# Altium footprint library Connector_Audio.PcbLib: 212 footprints (part 6 of 14)
Each footprint in its own frame and in the unit in brackets; x right, y up, seen from the top. Pads: shape width x height; smd on the part's side, far side on the other; paste and mask are expansions set on the pad; w line width, h text height; cw(c..) or ccw(c..) is an arc to the next point about the centre after c.
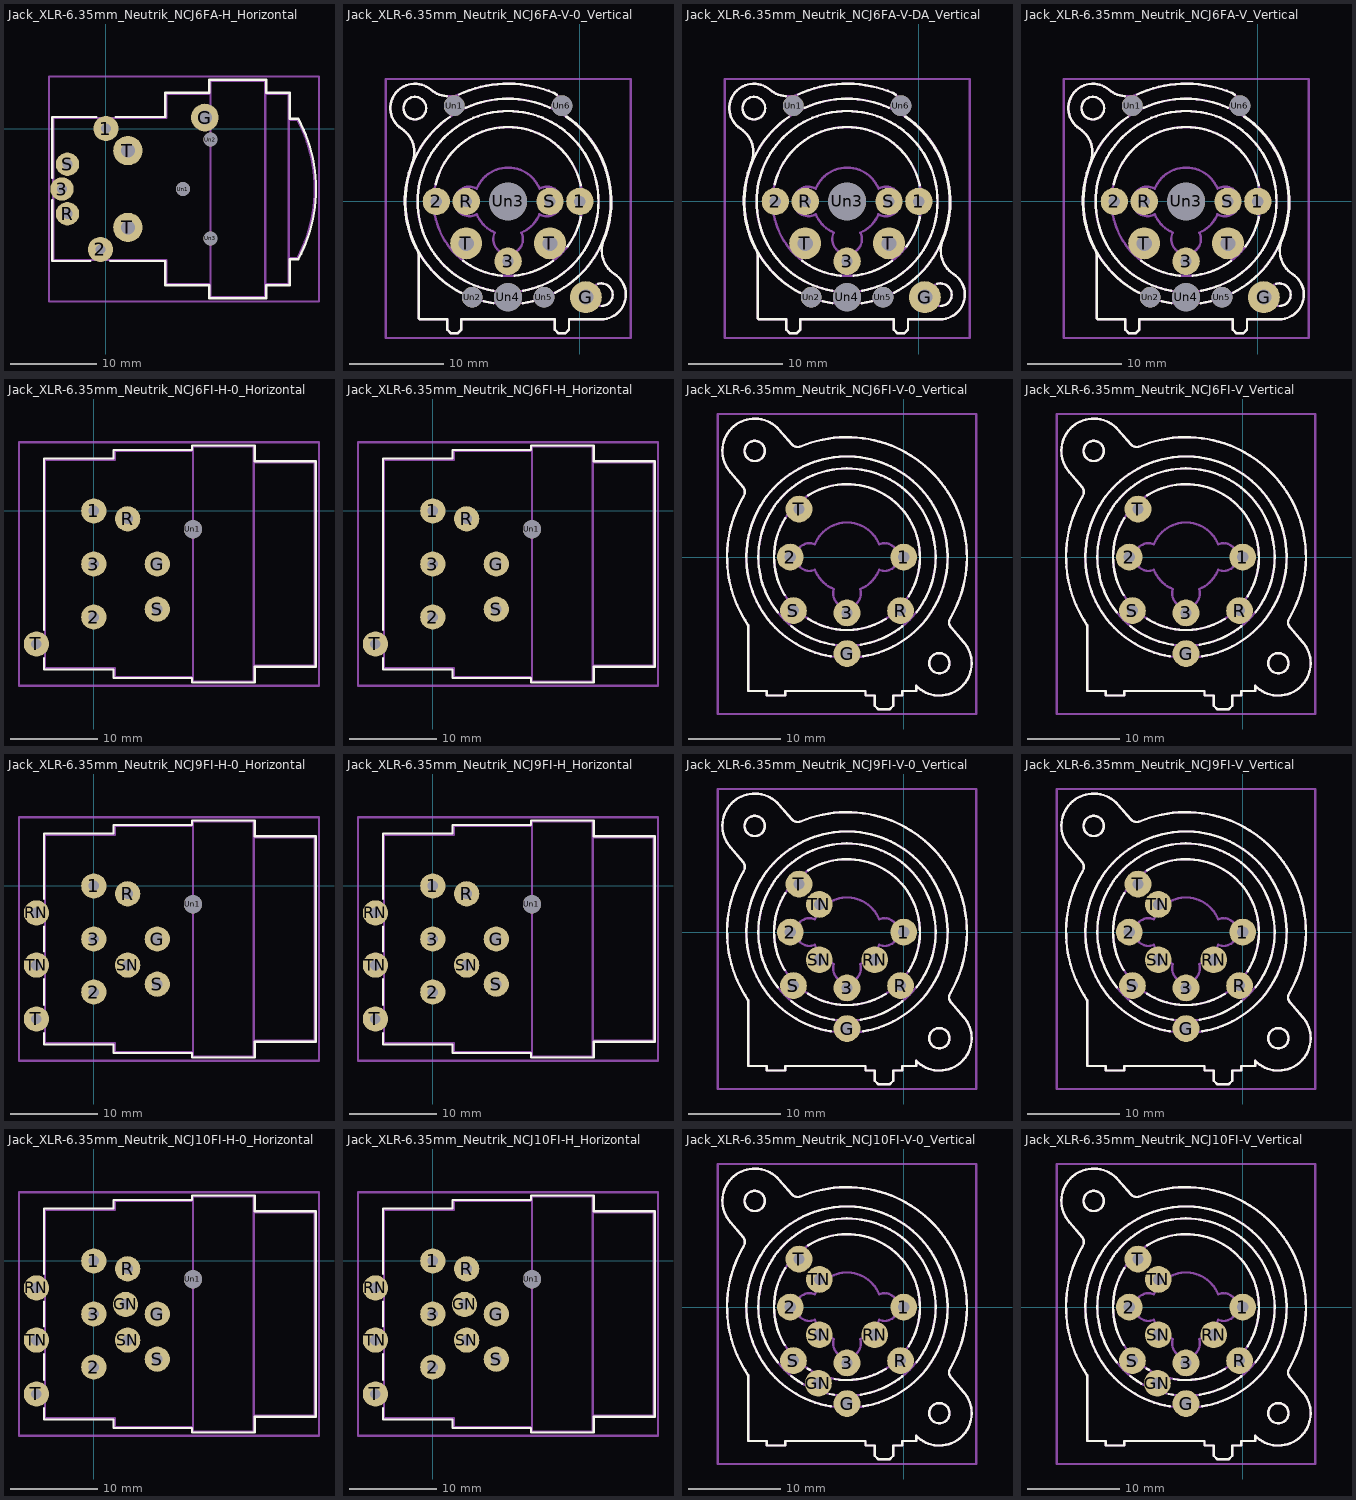
[diagram p5: the footprints below, top view; thin cyan lines are the x and y axes]

## Jack_XLR-6.35mm_Neutrik_NCJ6FA-H_Horizontal [mm]
pads (11):
  round 2.9 hole 1.2: 1(0,0) 2(-0.635,-13.97)
  round 2.7 hole 1.2: 3(-5.08,-6.985) R(-4.445,-9.842) S(-4.445,-4.127)
  round 3.2 hole 1.6: G(11.43,1.27)
  round 3.4 hole 1.6: T(2.54,-11.43) T(2.54,-2.54)
  round 1.6 hole 1.6: Un1(8.89,-6.985) Un2(12.065,-1.27) Un3(12.065,-12.7)
F.SilkS:
  lines w0.254: -6.205,-8.285 -6.205,-15.305 -1.8,-15.305 ; -6.205,-5.685 -6.205,1.335 -1.1,1.335 ; 0.5,-15.3 6.845,-15.305 6.845,-18.105 11.945,-18.105 11.945,-19.605 18.535,-19.605 18.535,-18.105 21.235,-18.105 21.235,-15.105 22.235,-15.105 ; 1.1,1.335 6.845,1.335 6.845,4.135 11.945,4.135 11.945,5.635 18.535,5.635 18.535,4.135 21.235,4.135 21.235,1.135 22.235,1.135 cw(c7.115,-6.985) 22.246,-15.085
Top Assembly:
  lines w0.254: 12.065,-17.985 6.965,-17.985 6.965,-15.185 -6.085,-15.185 -6.085,1.215 6.965,1.215 6.965,4.015 12.065,4.015 ; 18.415,-17.985 21.115,-17.985 21.115,4.015 18.415,4.015 ; 21.115,-14.985 22.115,-14.985 ; 21.115,1.015 22.115,1.015 cw(c7.115,-6.985) 22.121,-14.973 ; 12.065,-19.485 18.415,-19.485 18.415,5.515 12.065,5.515 12.065,-19.485
  text "'.Designator'" at 11.218,-7.825 h1
Top Courtyard:
  lines w0.254: -6.59,-19.98 24.62,-19.98 24.62,6.02 -6.59,6.02 -6.59,-19.98
Top Designator:
  text ".Designator" at 1.397,-7.488 h1.52
Dwgs.User:
  lines w0.254: 18.415,-19.485 18.415,5.515

## Jack_XLR-6.35mm_Neutrik_NCJ6FA-V-0_Vertical [mm]
pads (14):
  round 2.9 hole 1.2: 1(0,0) 2(-15.24,0) 3(-7.62,-6.35) R(-12.065,0) S(-3.175,0)
  round 3.4 hole 1.6: G(0.635,-10.16) T(-12.065,-4.445) T(-3.175,-4.445)
  round 2.2 hole 2.2: Un1(-13.335,10.16) Un2(-11.43,-10.16) Un5(-3.81,-10.16) Un6(-1.905,10.16)
  round 4 hole 4: Un3(-7.62,0)
  round 3 hole 3: Un4(-7.62,-10.16)
F.SilkS:
  circle w0.254: c-17.52,9.9 r1.2
  lines w0.254: -18.935,7.723 cw(c-17.52,9.9) -15.84,11.88 ccw(c-13.89,14.15) -14.149,11.169 ; -18.931,7.719 cw(c-20.56,5.21) -17.79,4.08 ccw(c-7.62,0) -17.144,-5.419 ; -17.155,-5.398 cw(c-17.35,-5.52) -17.12,-5.51 -17.12,-12.3 ccw(c-16.92,-12.3) -16.92,-12.5 -14.08,-12.5 -14.08,-13.6 -13.68,-14 -12.98,-14 -12.58,-13.6 -12.58,-12.5 -2.66,-12.5 -2.66,-13.6 -2.26,-14 -1.56,-14 -1.16,-13.6 -1.16,-12.5 2.28,-12.5 ccw(c2.28,-9.9) 3.696,-7.719 ; -15.31,1.8 cw(c-7.62,0) 0.084,1.74 ; -13.831,8.962 ccw(c-7.62,0) -12.6,-9.7 ; -12.836,11.357 cw(c-7.62,0) -2.75,11.51 ; -12.389,-6.297 ccw(c-7.62,0) -8.3,-7.87 ; -12.1,9.94 cw(c-7.62,0) -3.179,9.957 ; -10.216,-10.587 ccw(c-7.62,0) -9.17,-10.79 ; -9.2,-9.47 cw(c-7.62,0) -6.031,-9.468 ; -6.94,-7.87 ccw(c-7.62,0) -2.851,-6.297 ; -6.064,-10.788 ccw(c-7.62,0) -5,-10.58 ; -2.789,11.525 cw(c-3.15,10.58) -2.45,11.31 ; -2.613,-9.686 ccw(c-7.62,0) -1.45,8.99 ; -1.373,9.002 cw(c-7.62,0) 2.55,-4.08 ccw(c5.31,-5.21) 3.687,-7.712 ; -1.33,-4.78 ccw(c-7.62,0) 0.098,-1.687 ; 1.932,-8.751 cw(c2.28,-9.9) 2.3,-11.1
Top Assembly:
  circle w0.254: c2.28,-9.9 r1.2
  circle w0.254: c-7.62,0 r10.9
  circle w0.254: c-7.62,0 r9.6
  circle w0.254: c-7.62,0 r7.9
  circle w0.254: c-17.52,9.9 r1.2
  lines w0.254: -18.935,7.723 cw(c-17.52,9.9) -15.84,11.88 ccw(c-13.89,14.15) -12.914,11.321 ; -18.931,7.719 cw(c-20.56,5.21) -17.79,4.08 ccw(c-7.62,0) -17.144,-5.419 ; -17.155,-5.398 cw(c-17.35,-5.52) -17.12,-5.51 -17.12,-12.3 ccw(c-16.92,-12.3) -16.92,-12.5 -14.08,-12.5 -14.08,-13.6 -13.68,-14 -12.98,-14 -12.58,-13.6 -12.58,-12.5 -2.66,-12.5 -2.66,-13.6 -2.26,-14 -1.56,-14 -1.16,-13.6 -1.16,-12.5 2.28,-12.5 ccw(c2.28,-9.9) 3.696,-7.719 ; -12.915,11.321 cw(c-7.62,0) -2.75,11.51 ; -10.954,-1.362 cw(c-11.73,0) -10.95,1.36 ; -10.95,-1.36 ccw(c-7.62,0) -9.036,-3.307 ; -10.946,1.37 cw(c-7.62,0) -4.29,1.36 ; -9.03,-3.31 ccw(c-7.62,-4.01) -6.209,-3.313 ; -6.21,-3.31 ccw(c-7.62,0) -4.292,-1.367 ; -4.3,-1.36 ccw(c-3.513,0) -4.285,1.369 ; -2.752,11.511 cw(c-3.16,10.58) -2.21,10.22 -2.37,9.82 ccw(c-2.17,9.75) -2.265,9.56 ; -2.37,9.68 ccw(c-1.92,10.27) -2.207,10.954 ; -2.281,9.569 cw(c-7.62,0) 2.55,-4.08 ccw(c5.31,-5.21) 3.687,-7.712
  text "'.Designator'" at -11.667,3.66 h1
Top Courtyard:
  lines w0.254: -20.62,-14.5 5.38,-14.5 5.38,13 -20.62,13 -20.62,-14.5
Top Designator:
  text ".Designator" at -15.238,-1.258 h1.52

## Jack_XLR-6.35mm_Neutrik_NCJ6FA-V-DA_Vertical [mm]
pads (14):
  round 2.9 hole 1.2: 1(0,0) 2(-15.24,0) 3(-7.62,-6.35) R(-12.065,0) S(-3.175,0)
  round 3.4 hole 1.6: G(0.635,-10.16) T(-12.065,-4.445) T(-3.175,-4.445)
  round 2.2 hole 2.2: Un1(-13.335,10.16) Un2(-11.43,-10.16) Un5(-3.81,-10.16) Un6(-1.905,10.16)
  round 4 hole 4: Un3(-7.62,0)
  round 3 hole 3: Un4(-7.62,-10.16)
F.SilkS:
  circle w0.254: c-17.52,9.9 r1.2
  lines w0.254: -18.935,7.723 cw(c-17.52,9.9) -15.84,11.88 ccw(c-13.89,14.15) -14.149,11.169 ; -18.931,7.719 cw(c-20.56,5.21) -17.79,4.08 ccw(c-7.62,0) -17.144,-5.419 ; -17.155,-5.398 cw(c-17.35,-5.52) -17.12,-5.51 -17.12,-12.3 ccw(c-16.92,-12.3) -16.92,-12.5 -14.08,-12.5 -14.08,-13.6 -13.68,-14 -12.98,-14 -12.58,-13.6 -12.58,-12.5 -2.66,-12.5 -2.66,-13.6 -2.26,-14 -1.56,-14 -1.16,-13.6 -1.16,-12.5 2.28,-12.5 ccw(c2.28,-9.9) 3.696,-7.719 ; -15.31,1.8 cw(c-7.62,0) 0.084,1.74 ; -13.831,8.962 ccw(c-7.62,0) -12.6,-9.7 ; -12.836,11.357 cw(c-7.62,0) -2.75,11.51 ; -12.389,-6.297 ccw(c-7.62,0) -8.3,-7.87 ; -12.1,9.94 cw(c-7.62,0) -3.179,9.957 ; -10.216,-10.587 ccw(c-7.62,0) -9.17,-10.79 ; -9.2,-9.47 cw(c-7.62,0) -6.031,-9.468 ; -6.94,-7.87 ccw(c-7.62,0) -2.851,-6.297 ; -6.064,-10.788 ccw(c-7.62,0) -5,-10.58 ; -2.789,11.525 cw(c-3.15,10.58) -2.45,11.31 ; -2.613,-9.686 ccw(c-7.62,0) -1.45,8.99 ; -1.373,9.002 cw(c-7.62,0) 2.55,-4.08 ccw(c5.31,-5.21) 3.687,-7.712 ; -1.33,-4.78 ccw(c-7.62,0) 0.098,-1.687 ; 1.932,-8.751 cw(c2.28,-9.9) 2.3,-11.1
Top Assembly:
  circle w0.254: c2.28,-9.9 r1.2
  circle w0.254: c-7.62,0 r10.9
  circle w0.254: c-7.62,0 r9.6
  circle w0.254: c-7.62,0 r7.9
  circle w0.254: c-17.52,9.9 r1.2
  lines w0.254: -18.935,7.723 cw(c-17.52,9.9) -15.84,11.88 ccw(c-13.89,14.15) -12.914,11.321 ; -18.931,7.719 cw(c-20.56,5.21) -17.79,4.08 ccw(c-7.62,0) -17.144,-5.419 ; -17.155,-5.398 cw(c-17.35,-5.52) -17.12,-5.51 -17.12,-12.3 ccw(c-16.92,-12.3) -16.92,-12.5 -14.08,-12.5 -14.08,-13.6 -13.68,-14 -12.98,-14 -12.58,-13.6 -12.58,-12.5 -2.66,-12.5 -2.66,-13.6 -2.26,-14 -1.56,-14 -1.16,-13.6 -1.16,-12.5 2.28,-12.5 ccw(c2.28,-9.9) 3.696,-7.719 ; -12.915,11.321 cw(c-7.62,0) -2.75,11.51 ; -10.954,-1.362 cw(c-11.73,0) -10.95,1.36 ; -10.95,-1.36 ccw(c-7.62,0) -9.036,-3.307 ; -10.946,1.37 cw(c-7.62,0) -4.29,1.36 ; -9.03,-3.31 ccw(c-7.62,-4.01) -6.209,-3.313 ; -6.21,-3.31 ccw(c-7.62,0) -4.292,-1.367 ; -4.3,-1.36 ccw(c-3.513,0) -4.285,1.369 ; -2.752,11.511 cw(c-3.16,10.58) -2.21,10.22 -2.37,9.82 ccw(c-2.17,9.75) -2.265,9.56 ; -2.37,9.68 ccw(c-1.92,10.27) -2.207,10.954 ; -2.281,9.569 cw(c-7.62,0) 2.55,-4.08 ccw(c5.31,-5.21) 3.687,-7.712
  text "'.Designator'" at -11.667,3.66 h1
Top Courtyard:
  lines w0.254: -20.62,-14.5 5.38,-14.5 5.38,13 -20.62,13 -20.62,-14.5
Top Designator:
  text ".Designator" at -15.238,-1.258 h1.52

## Jack_XLR-6.35mm_Neutrik_NCJ6FA-V_Vertical [mm]
pads (14):
  round 2.9 hole 1.2: 1(0,0) 2(-15.24,0) 3(-7.62,-6.35) R(-12.065,0) S(-3.175,0)
  round 3.4 hole 1.6: G(0.635,-10.16) T(-12.065,-4.445) T(-3.175,-4.445)
  round 2.2 hole 2.2: Un1(-13.335,10.16) Un2(-11.43,-10.16) Un5(-3.81,-10.16) Un6(-1.905,10.16)
  round 4 hole 4: Un3(-7.62,0)
  round 3 hole 3: Un4(-7.62,-10.16)
F.SilkS:
  circle w0.254: c-17.52,9.9 r1.2
  lines w0.254: -18.935,7.723 cw(c-17.52,9.9) -15.84,11.88 ccw(c-13.89,14.15) -14.149,11.169 ; -18.931,7.719 cw(c-20.56,5.21) -17.79,4.08 ccw(c-7.62,0) -17.144,-5.419 ; -17.155,-5.398 cw(c-17.35,-5.52) -17.12,-5.51 -17.12,-12.3 ccw(c-16.92,-12.3) -16.92,-12.5 -14.08,-12.5 -14.08,-13.6 -13.68,-14 -12.98,-14 -12.58,-13.6 -12.58,-12.5 -2.66,-12.5 -2.66,-13.6 -2.26,-14 -1.56,-14 -1.16,-13.6 -1.16,-12.5 2.28,-12.5 ccw(c2.28,-9.9) 3.696,-7.719 ; -15.31,1.8 cw(c-7.62,0) 0.084,1.74 ; -13.831,8.962 ccw(c-7.62,0) -12.6,-9.7 ; -12.836,11.357 cw(c-7.62,0) -2.75,11.51 ; -12.389,-6.297 ccw(c-7.62,0) -8.3,-7.87 ; -12.1,9.94 cw(c-7.62,0) -3.179,9.957 ; -10.216,-10.587 ccw(c-7.62,0) -9.17,-10.79 ; -9.2,-9.47 cw(c-7.62,0) -6.031,-9.468 ; -6.94,-7.87 ccw(c-7.62,0) -2.851,-6.297 ; -6.064,-10.788 ccw(c-7.62,0) -5,-10.58 ; -2.789,11.525 cw(c-3.15,10.58) -2.45,11.31 ; -2.613,-9.686 ccw(c-7.62,0) -1.45,8.99 ; -1.373,9.002 cw(c-7.62,0) 2.55,-4.08 ccw(c5.31,-5.21) 3.687,-7.712 ; -1.33,-4.78 ccw(c-7.62,0) 0.098,-1.687 ; 1.932,-8.751 cw(c2.28,-9.9) 2.3,-11.1
Top Assembly:
  circle w0.254: c2.28,-9.9 r1.2
  circle w0.254: c-7.62,0 r10.9
  circle w0.254: c-7.62,0 r9.6
  circle w0.254: c-7.62,0 r7.9
  circle w0.254: c-17.52,9.9 r1.2
  lines w0.254: -18.935,7.723 cw(c-17.52,9.9) -15.84,11.88 ccw(c-13.89,14.15) -12.914,11.321 ; -18.931,7.719 cw(c-20.56,5.21) -17.79,4.08 ccw(c-7.62,0) -17.144,-5.419 ; -17.155,-5.398 cw(c-17.35,-5.52) -17.12,-5.51 -17.12,-12.3 ccw(c-16.92,-12.3) -16.92,-12.5 -14.08,-12.5 -14.08,-13.6 -13.68,-14 -12.98,-14 -12.58,-13.6 -12.58,-12.5 -2.66,-12.5 -2.66,-13.6 -2.26,-14 -1.56,-14 -1.16,-13.6 -1.16,-12.5 2.28,-12.5 ccw(c2.28,-9.9) 3.696,-7.719 ; -12.915,11.321 cw(c-7.62,0) -2.75,11.51 ; -10.954,-1.362 cw(c-11.73,0) -10.95,1.36 ; -10.95,-1.36 ccw(c-7.62,0) -9.036,-3.307 ; -10.946,1.37 cw(c-7.62,0) -4.29,1.36 ; -9.03,-3.31 ccw(c-7.62,-4.01) -6.209,-3.313 ; -6.21,-3.31 ccw(c-7.62,0) -4.292,-1.367 ; -4.3,-1.36 ccw(c-3.513,0) -4.285,1.369 ; -2.752,11.511 cw(c-3.16,10.58) -2.21,10.22 -2.37,9.82 ccw(c-2.17,9.75) -2.265,9.56 ; -2.37,9.68 ccw(c-1.92,10.27) -2.207,10.954 ; -2.281,9.569 cw(c-7.62,0) 2.55,-4.08 ccw(c5.31,-5.21) 3.687,-7.712
  text "'.Designator'" at -11.667,3.66 h1
Top Courtyard:
  lines w0.254: -20.62,-14.5 5.38,-14.5 5.38,13 -20.62,13 -20.62,-14.5
Top Designator:
  text ".Designator" at -15.238,-1.258 h1.52

## Jack_XLR-6.35mm_Neutrik_NCJ6FI-H-0_Horizontal [mm]
pads (8):
  round 2.9 hole 1.2: 1(0,0) 2(0,-12.2) 3(0,-6.1) G(7.3,-6.1) R(3.9,-0.9) S(7.3,-11.3) T(-6.6,-15.3)
  round 2.1 hole 2.1: Un1(11.4,-2.1)
F.SilkS:
  lines w0.254: -5.72,-16.9 -5.72,-18.22 2.28,-18.22 2.28,-19.22 11.28,-19.22 11.28,-19.72 18.52,-19.72 18.52,-17.92 25.52,-17.92 25.52,5.72 18.52,5.72 18.52,7.52 11.28,7.52 11.28,7.02 2.28,7.02 2.28,6.02 -5.72,6.02 -5.72,-13.7
Top Assembly:
  lines w0.254: 11.4,-19.1 2.4,-19.1 2.4,-18.1 -5.6,-18.1 -5.6,5.9 2.4,5.9 2.4,6.9 11.4,6.9 ; 18.4,-17.8 25.4,-17.8 25.4,5.6 18.4,5.6 ; 11.4,-19.6 18.4,-19.6 18.4,7.4 11.4,7.4 11.4,-19.6
  text "'.Designator'" at 10.853,-6.94 h1
Top Courtyard:
  lines w0.254: -8.6,-20.1 25.9,-20.1 25.9,7.9 -8.6,7.9 -8.6,-20.1
Top Designator:
  text ".Designator" at 1.032,-6.608 h1.52
Dwgs.User:
  lines w0.254: 18.4,-19.6 18.4,7.4

## Jack_XLR-6.35mm_Neutrik_NCJ6FI-H_Horizontal [mm]
pads (8):
  round 2.9 hole 1.2: 1(0,0) 2(0,-12.2) 3(0,-6.1) G(7.3,-6.1) R(3.9,-0.9) S(7.3,-11.3) T(-6.6,-15.3)
  round 2.1 hole 2.1: Un1(11.4,-2.1)
F.SilkS:
  lines w0.254: -5.72,-16.9 -5.72,-18.22 2.28,-18.22 2.28,-19.22 11.28,-19.22 11.28,-19.72 18.52,-19.72 18.52,-17.92 25.52,-17.92 25.52,5.72 18.52,5.72 18.52,7.52 11.28,7.52 11.28,7.02 2.28,7.02 2.28,6.02 -5.72,6.02 -5.72,-13.7
Top Assembly:
  lines w0.254: 11.4,-19.1 2.4,-19.1 2.4,-18.1 -5.6,-18.1 -5.6,5.9 2.4,5.9 2.4,6.9 11.4,6.9 ; 18.4,-17.8 25.4,-17.8 25.4,5.6 18.4,5.6 ; 11.4,-19.6 18.4,-19.6 18.4,7.4 11.4,7.4 11.4,-19.6
  text "'.Designator'" at 10.853,-6.94 h1
Top Courtyard:
  lines w0.254: -8.6,-20.1 25.9,-20.1 25.9,7.9 -8.6,7.9 -8.6,-20.1
Top Designator:
  text ".Designator" at 1.032,-6.608 h1.52
Dwgs.User:
  lines w0.254: 18.4,-19.6 18.4,7.4

## Jack_XLR-6.35mm_Neutrik_NCJ6FI-V-0_Vertical [mm]
pads (7):
  round 2.9 hole 1.2: 1(0,0) 2(-12.3,0) 3(-6.15,-6.05) G(-6.15,-10.45) R(-0.35,-5.8) S(-11.95,-5.8) T(-11.35,5.2)
F.SilkS:
  circle w0.254: c3.85,-11.5 r1.1
  circle w0.254: c-16.15,11.5 r1.1
  lines w0.254: -16.851,-7.375 cw(c-6.15,0) -17.31,6.66 ccw(c-18.08,7.06) -17.4,7.6 -18.79,9.2 cw(c-16.15,11.5) -13.51,13.8 -12.11,12.19 ccw(c-11.5,12.73) -11.178,11.982 ; -16.85,-7.38 -16.85,-14.5 -14.85,-14.5 -14.85,-15 -12.85,-15 -12.85,-14.5 -4.15,-14.5 -4.15,-15 -3.15,-15 -3.15,-16.1 -2.75,-16.5 -1.55,-16.5 -1.15,-16.1 -1.15,-15 -0.15,-15 -0.15,-14.5 1.35,-14.5 1.35,-13.95 ; -13.65,-6 cw(c-6.15,0) 1.373,-5.971 ; -12.9,-4.11 cw(c-6.15,0) -12.847,4.195 ; -12.191,-7.464 ccw(c-6.15,0) -7.55,-9.5 ; -11.201,11.974 cw(c-6.15,0) 5.01,-6.66 ccw(c5.69,-7.07) 5.109,-7.612 ; -10.37,-6.681 ccw(c-6.15,0) -1.96,-6.7 ; -10.34,6.7 cw(c-6.15,0) 0.524,-4.232 ; -7.9,-10.76 cw(c-6.15,0) -4.395,-10.759 ; -4.663,-9.483 ccw(c-6.15,0) -0.16,-7.5 ; 1.351,-13.953 ccw(c3.85,-11.5) 6.49,-9.2 5.1,-7.6
Top Assembly:
  circle w0.254: c3.85,-11.5 r1.1
  circle w0.254: c-6.15,0 r10.9
  circle w0.254: c-6.15,0 r9.6
  circle w0.254: c-6.15,0 r7.9
  circle w0.254: c-16.15,11.5 r1.1
  lines w0.254: -16.851,-7.375 cw(c-6.15,0) -17.31,6.66 ccw(c-18.08,7.06) -17.4,7.6 -18.79,9.2 cw(c-16.15,11.5) -13.51,13.8 -12.11,12.19 ccw(c-11.5,12.73) -11.178,11.982 ; -16.85,-7.38 -16.85,-14.5 -14.85,-14.5 -14.85,-15 -12.85,-15 -12.85,-14.5 -4.15,-14.5 -4.15,-15 -3.15,-15 -3.15,-16.1 -2.75,-16.5 -1.55,-16.5 -1.15,-16.1 -1.15,-15 -0.15,-15 -0.15,-14.5 1.35,-14.5 1.35,-13.95 ; -11.201,11.974 cw(c-6.15,0) 5.01,-6.66 ccw(c5.69,-7.07) 5.109,-7.612 ; -9.635,-1.392 cw(c-10.2,0) -9.63,1.39 ; -9.631,1.387 cw(c-6.15,0) -2.67,1.39 ; -9.63,-1.39 ccw(c-6.15,0) -7.568,-3.469 ; -7.57,-3.47 ccw(c-6.15,-3.95) -4.73,-3.471 ; -4.73,-3.47 ccw(c-6.15,0) -2.667,-1.389 ; -2.67,-1.39 ccw(c-2.1,0) -2.665,1.392 ; 1.351,-13.953 ccw(c3.85,-11.5) 6.49,-9.2 5.1,-7.6
  text "'.Designator'" at -10.197,-0.84 h1
Top Courtyard:
  lines w0.254: -20.15,-17 7.85,-17 7.85,15.5 -20.15,15.5 -20.15,-17
Top Designator:
  text ".Designator" at -13.768,-1.258 h1.52

## Jack_XLR-6.35mm_Neutrik_NCJ6FI-V_Vertical [mm]
pads (7):
  round 2.9 hole 1.2: 1(0,0) 2(-12.3,0) 3(-6.15,-6.05) G(-6.15,-10.45) R(-0.35,-5.8) S(-11.95,-5.8) T(-11.35,5.2)
F.SilkS:
  circle w0.254: c3.85,-11.5 r1.1
  circle w0.254: c-16.15,11.5 r1.1
  lines w0.254: -16.851,-7.375 cw(c-6.15,0) -17.31,6.66 ccw(c-18.08,7.06) -17.4,7.6 -18.79,9.2 cw(c-16.15,11.5) -13.51,13.8 -12.11,12.19 ccw(c-11.5,12.73) -11.178,11.982 ; -16.85,-7.38 -16.85,-14.5 -14.85,-14.5 -14.85,-15 -12.85,-15 -12.85,-14.5 -4.15,-14.5 -4.15,-15 -3.15,-15 -3.15,-16.1 -2.75,-16.5 -1.55,-16.5 -1.15,-16.1 -1.15,-15 -0.15,-15 -0.15,-14.5 1.35,-14.5 1.35,-13.95 ; -13.65,-6 cw(c-6.15,0) 1.373,-5.971 ; -12.9,-4.11 cw(c-6.15,0) -12.847,4.195 ; -12.191,-7.464 ccw(c-6.15,0) -7.55,-9.5 ; -11.201,11.974 cw(c-6.15,0) 5.01,-6.66 ccw(c5.69,-7.07) 5.109,-7.612 ; -10.37,-6.681 ccw(c-6.15,0) -1.96,-6.7 ; -10.34,6.7 cw(c-6.15,0) 0.524,-4.232 ; -7.9,-10.76 cw(c-6.15,0) -4.395,-10.759 ; -4.663,-9.483 ccw(c-6.15,0) -0.16,-7.5 ; 1.351,-13.953 ccw(c3.85,-11.5) 6.49,-9.2 5.1,-7.6
Top Assembly:
  circle w0.254: c3.85,-11.5 r1.1
  circle w0.254: c-6.15,0 r10.9
  circle w0.254: c-6.15,0 r9.6
  circle w0.254: c-6.15,0 r7.9
  circle w0.254: c-16.15,11.5 r1.1
  lines w0.254: -16.851,-7.375 cw(c-6.15,0) -17.31,6.66 ccw(c-18.08,7.06) -17.4,7.6 -18.79,9.2 cw(c-16.15,11.5) -13.51,13.8 -12.11,12.19 ccw(c-11.5,12.73) -11.178,11.982 ; -16.85,-7.38 -16.85,-14.5 -14.85,-14.5 -14.85,-15 -12.85,-15 -12.85,-14.5 -4.15,-14.5 -4.15,-15 -3.15,-15 -3.15,-16.1 -2.75,-16.5 -1.55,-16.5 -1.15,-16.1 -1.15,-15 -0.15,-15 -0.15,-14.5 1.35,-14.5 1.35,-13.95 ; -11.201,11.974 cw(c-6.15,0) 5.01,-6.66 ccw(c5.69,-7.07) 5.109,-7.612 ; -9.635,-1.392 cw(c-10.2,0) -9.63,1.39 ; -9.631,1.387 cw(c-6.15,0) -2.67,1.39 ; -9.63,-1.39 ccw(c-6.15,0) -7.568,-3.469 ; -7.57,-3.47 ccw(c-6.15,-3.95) -4.73,-3.471 ; -4.73,-3.47 ccw(c-6.15,0) -2.667,-1.389 ; -2.67,-1.39 ccw(c-2.1,0) -2.665,1.392 ; 1.351,-13.953 ccw(c3.85,-11.5) 6.49,-9.2 5.1,-7.6
  text "'.Designator'" at -10.197,-0.84 h1
Top Courtyard:
  lines w0.254: -20.15,-17 7.85,-17 7.85,15.5 -20.15,15.5 -20.15,-17
Top Designator:
  text ".Designator" at -13.768,-1.258 h1.52

## Jack_XLR-6.35mm_Neutrik_NCJ9FI-H-0_Horizontal [mm]
pads (11):
  round 2.9 hole 1.2: 1(0,0) 2(0,-12.2) 3(0,-6.1) G(7.3,-6.1) R(3.9,-0.9) RN(-6.6,-3.1) S(7.3,-11.3) SN(3.9,-9.1) T(-6.6,-15.3) TN(-6.6,-9.1)
  round 2.1 hole 2.1: Un1(11.4,-2.1)
F.SilkS:
  lines w0.254: -5.72,-16.9 -5.72,-18.22 2.28,-18.22 2.28,-19.22 11.28,-19.22 11.28,-19.72 18.52,-19.72 18.52,-17.92 25.52,-17.92 25.52,5.72 18.52,5.72 18.52,7.52 11.28,7.52 11.28,7.02 2.28,7.02 2.28,6.02 -5.72,6.02 -5.72,-1.5 ; -5.72,-13.7 -5.72,-10.7 ; -5.72,-7.5 -5.72,-4.7
Top Assembly:
  lines w0.254: 11.4,-19.1 2.4,-19.1 2.4,-18.1 -5.6,-18.1 -5.6,5.9 2.4,5.9 2.4,6.9 11.4,6.9 ; 18.4,-17.8 25.4,-17.8 25.4,5.6 18.4,5.6 ; 11.4,-19.6 18.4,-19.6 18.4,7.4 11.4,7.4 11.4,-19.6
  text "'.Designator'" at 10.853,-6.94 h1
Top Courtyard:
  lines w0.254: -8.6,-20.1 25.9,-20.1 25.9,7.9 -8.6,7.9 -8.6,-20.1
Top Designator:
  text ".Designator" at 1.032,-6.608 h1.52
Dwgs.User:
  lines w0.254: 18.4,-19.6 18.4,7.4

## Jack_XLR-6.35mm_Neutrik_NCJ9FI-H_Horizontal [mm]
pads (11):
  round 2.9 hole 1.2: 1(0,0) 2(0,-12.2) 3(0,-6.1) G(7.3,-6.1) R(3.9,-0.9) RN(-6.6,-3.1) S(7.3,-11.3) SN(3.9,-9.1) T(-6.6,-15.3) TN(-6.6,-9.1)
  round 2.1 hole 2.1: Un1(11.4,-2.1)
F.SilkS:
  lines w0.254: -5.72,-16.9 -5.72,-18.22 2.28,-18.22 2.28,-19.22 11.28,-19.22 11.28,-19.72 18.52,-19.72 18.52,-17.92 25.52,-17.92 25.52,5.72 18.52,5.72 18.52,7.52 11.28,7.52 11.28,7.02 2.28,7.02 2.28,6.02 -5.72,6.02 -5.72,-1.5 ; -5.72,-13.7 -5.72,-10.7 ; -5.72,-7.5 -5.72,-4.7
Top Assembly:
  lines w0.254: 11.4,-19.1 2.4,-19.1 2.4,-18.1 -5.6,-18.1 -5.6,5.9 2.4,5.9 2.4,6.9 11.4,6.9 ; 18.4,-17.8 25.4,-17.8 25.4,5.6 18.4,5.6 ; 11.4,-19.6 18.4,-19.6 18.4,7.4 11.4,7.4 11.4,-19.6
  text "'.Designator'" at 10.853,-6.94 h1
Top Courtyard:
  lines w0.254: -8.6,-20.1 25.9,-20.1 25.9,7.9 -8.6,7.9 -8.6,-20.1
Top Designator:
  text ".Designator" at 1.032,-6.608 h1.52
Dwgs.User:
  lines w0.254: 18.4,-19.6 18.4,7.4

## Jack_XLR-6.35mm_Neutrik_NCJ9FI-V-0_Vertical [mm]
pads (10):
  round 2.9 hole 1.2: 1(0,0) 2(-12.3,0) 3(-6.15,-6.05) G(-6.15,-10.45) R(-0.35,-5.8) RN(-3.15,-3) S(-11.95,-5.8) SN(-9.15,-3) T(-11.35,5.2) TN(-9.15,3)
F.SilkS:
  circle w0.254: c3.85,-11.5 r1.1
  circle w0.254: c-16.15,11.5 r1.1
  lines w0.254: -16.851,-7.375 cw(c-6.15,0) -17.31,6.66 ccw(c-18.08,7.06) -17.4,7.6 -18.79,9.2 cw(c-16.15,11.5) -13.51,13.8 -12.11,12.19 ccw(c-11.5,12.73) -11.178,11.982 ; -16.85,-7.38 -16.85,-14.5 -14.85,-14.5 -14.85,-15 -12.85,-15 -12.85,-14.5 -4.15,-14.5 -4.15,-15 -3.15,-15 -3.15,-16.1 -2.75,-16.5 -1.55,-16.5 -1.15,-16.1 -1.15,-15 -0.15,-15 -0.15,-14.5 1.35,-14.5 1.35,-13.95 ; -13.65,-6 cw(c-6.15,0) 1.373,-5.971 ; -12.9,-4.11 cw(c-6.15,0) -12.847,4.195 ; -12.191,-7.464 ccw(c-6.15,0) -7.55,-9.5 ; -11.201,11.974 cw(c-6.15,0) 5.01,-6.66 ccw(c5.69,-7.07) 5.109,-7.612 ; -10.37,-6.681 ccw(c-6.15,0) -1.96,-6.7 ; -10.34,6.7 cw(c-6.15,0) 0.524,-4.232 ; -7.9,-10.76 cw(c-6.15,0) -4.395,-10.759 ; -4.663,-9.483 ccw(c-6.15,0) -0.16,-7.5 ; 1.351,-13.953 ccw(c3.85,-11.5) 6.49,-9.2 5.1,-7.6
Top Assembly:
  circle w0.254: c3.85,-11.5 r1.1
  circle w0.254: c-6.15,0 r10.9
  circle w0.254: c-6.15,0 r9.6
  circle w0.254: c-6.15,0 r7.9
  circle w0.254: c-16.15,11.5 r1.1
  lines w0.254: -16.851,-7.375 cw(c-6.15,0) -17.31,6.66 ccw(c-18.08,7.06) -17.4,7.6 -18.79,9.2 cw(c-16.15,11.5) -13.51,13.8 -12.11,12.19 ccw(c-11.5,12.73) -11.178,11.982 ; -16.85,-7.38 -16.85,-14.5 -14.85,-14.5 -14.85,-15 -12.85,-15 -12.85,-14.5 -4.15,-14.5 -4.15,-15 -3.15,-15 -3.15,-16.1 -2.75,-16.5 -1.55,-16.5 -1.15,-16.1 -1.15,-15 -0.15,-15 -0.15,-14.5 1.35,-14.5 1.35,-13.95 ; -11.201,11.974 cw(c-6.15,0) 5.01,-6.66 ccw(c5.69,-7.07) 5.109,-7.612 ; -9.635,-1.392 cw(c-10.2,0) -9.63,1.39 ; -9.631,1.387 cw(c-6.15,0) -2.67,1.39 ; -9.63,-1.39 ccw(c-6.15,0) -7.568,-3.469 ; -7.57,-3.47 ccw(c-6.15,-3.95) -4.73,-3.471 ; -4.73,-3.47 ccw(c-6.15,0) -2.667,-1.389 ; -2.67,-1.39 ccw(c-2.1,0) -2.665,1.392 ; 1.351,-13.953 ccw(c3.85,-11.5) 6.49,-9.2 5.1,-7.6
  text "'.Designator'" at -10.197,-0.84 h1
Top Courtyard:
  lines w0.254: -20.15,-17 7.85,-17 7.85,15.5 -20.15,15.5 -20.15,-17
Top Designator:
  text ".Designator" at -13.768,-1.258 h1.52

## Jack_XLR-6.35mm_Neutrik_NCJ9FI-V_Vertical [mm]
pads (10):
  round 2.9 hole 1.2: 1(0,0) 2(-12.3,0) 3(-6.15,-6.05) G(-6.15,-10.45) R(-0.35,-5.8) RN(-3.15,-3) S(-11.95,-5.8) SN(-9.15,-3) T(-11.35,5.2) TN(-9.15,3)
F.SilkS:
  circle w0.254: c3.85,-11.5 r1.1
  circle w0.254: c-16.15,11.5 r1.1
  lines w0.254: -16.851,-7.375 cw(c-6.15,0) -17.31,6.66 ccw(c-18.08,7.06) -17.4,7.6 -18.79,9.2 cw(c-16.15,11.5) -13.51,13.8 -12.11,12.19 ccw(c-11.5,12.73) -11.178,11.982 ; -16.85,-7.38 -16.85,-14.5 -14.85,-14.5 -14.85,-15 -12.85,-15 -12.85,-14.5 -4.15,-14.5 -4.15,-15 -3.15,-15 -3.15,-16.1 -2.75,-16.5 -1.55,-16.5 -1.15,-16.1 -1.15,-15 -0.15,-15 -0.15,-14.5 1.35,-14.5 1.35,-13.95 ; -13.65,-6 cw(c-6.15,0) 1.373,-5.971 ; -12.9,-4.11 cw(c-6.15,0) -12.847,4.195 ; -12.191,-7.464 ccw(c-6.15,0) -7.55,-9.5 ; -11.201,11.974 cw(c-6.15,0) 5.01,-6.66 ccw(c5.69,-7.07) 5.109,-7.612 ; -10.37,-6.681 ccw(c-6.15,0) -1.96,-6.7 ; -10.34,6.7 cw(c-6.15,0) 0.524,-4.232 ; -7.9,-10.76 cw(c-6.15,0) -4.395,-10.759 ; -4.663,-9.483 ccw(c-6.15,0) -0.16,-7.5 ; 1.351,-13.953 ccw(c3.85,-11.5) 6.49,-9.2 5.1,-7.6
Top Assembly:
  circle w0.254: c3.85,-11.5 r1.1
  circle w0.254: c-6.15,0 r10.9
  circle w0.254: c-6.15,0 r9.6
  circle w0.254: c-6.15,0 r7.9
  circle w0.254: c-16.15,11.5 r1.1
  lines w0.254: -16.851,-7.375 cw(c-6.15,0) -17.31,6.66 ccw(c-18.08,7.06) -17.4,7.6 -18.79,9.2 cw(c-16.15,11.5) -13.51,13.8 -12.11,12.19 ccw(c-11.5,12.73) -11.178,11.982 ; -16.85,-7.38 -16.85,-14.5 -14.85,-14.5 -14.85,-15 -12.85,-15 -12.85,-14.5 -4.15,-14.5 -4.15,-15 -3.15,-15 -3.15,-16.1 -2.75,-16.5 -1.55,-16.5 -1.15,-16.1 -1.15,-15 -0.15,-15 -0.15,-14.5 1.35,-14.5 1.35,-13.95 ; -11.201,11.974 cw(c-6.15,0) 5.01,-6.66 ccw(c5.69,-7.07) 5.109,-7.612 ; -9.635,-1.392 cw(c-10.2,0) -9.63,1.39 ; -9.631,1.387 cw(c-6.15,0) -2.67,1.39 ; -9.63,-1.39 ccw(c-6.15,0) -7.568,-3.469 ; -7.57,-3.47 ccw(c-6.15,-3.95) -4.73,-3.471 ; -4.73,-3.47 ccw(c-6.15,0) -2.667,-1.389 ; -2.67,-1.39 ccw(c-2.1,0) -2.665,1.392 ; 1.351,-13.953 ccw(c3.85,-11.5) 6.49,-9.2 5.1,-7.6
  text "'.Designator'" at -10.197,-0.84 h1
Top Courtyard:
  lines w0.254: -20.15,-17 7.85,-17 7.85,15.5 -20.15,15.5 -20.15,-17
Top Designator:
  text ".Designator" at -13.768,-1.258 h1.52

## Jack_XLR-6.35mm_Neutrik_NCJ10FI-H-0_Horizontal [mm]
pads (12):
  round 2.9 hole 1.2: 1(0,0) 2(0,-12.2) 3(0,-6.1) G(7.3,-6.1) GN(3.65,-5) R(3.9,-0.9) RN(-6.6,-3.1) S(7.3,-11.3) SN(3.9,-9.1) T(-6.6,-15.3) TN(-6.6,-9.1)
  round 2.1 hole 2.1: Un1(11.4,-2.1)
F.SilkS:
  lines w0.254: -5.72,-16.9 -5.72,-18.22 2.28,-18.22 2.28,-19.22 11.28,-19.22 11.28,-19.72 18.52,-19.72 18.52,-17.92 25.52,-17.92 25.52,5.72 18.52,5.72 18.52,7.52 11.28,7.52 11.28,7.02 2.28,7.02 2.28,6.02 -5.72,6.02 -5.72,-1.5 ; -5.72,-13.7 -5.72,-10.7 ; -5.72,-7.5 -5.72,-4.7
Top Assembly:
  lines w0.254: 11.4,-19.1 2.4,-19.1 2.4,-18.1 -5.6,-18.1 -5.6,5.9 2.4,5.9 2.4,6.9 11.4,6.9 ; 18.4,-17.8 25.4,-17.8 25.4,5.6 18.4,5.6 ; 11.4,-19.6 18.4,-19.6 18.4,7.4 11.4,7.4 11.4,-19.6
  text "'.Designator'" at 10.853,-6.94 h1
Top Courtyard:
  lines w0.254: -8.6,-20.1 25.9,-20.1 25.9,7.9 -8.6,7.9 -8.6,-20.1
Top Designator:
  text ".Designator" at 1.032,-6.608 h1.52
Dwgs.User:
  lines w0.254: 18.4,-19.6 18.4,7.4

## Jack_XLR-6.35mm_Neutrik_NCJ10FI-H_Horizontal [mm]
pads (12):
  round 2.9 hole 1.2: 1(0,0) 2(0,-12.2) 3(0,-6.1) G(7.3,-6.1) GN(3.65,-5) R(3.9,-0.9) RN(-6.6,-3.1) S(7.3,-11.3) SN(3.9,-9.1) T(-6.6,-15.3) TN(-6.6,-9.1)
  round 2.1 hole 2.1: Un1(11.4,-2.1)
F.SilkS:
  lines w0.254: -5.72,-16.9 -5.72,-18.22 2.28,-18.22 2.28,-19.22 11.28,-19.22 11.28,-19.72 18.52,-19.72 18.52,-17.92 25.52,-17.92 25.52,5.72 18.52,5.72 18.52,7.52 11.28,7.52 11.28,7.02 2.28,7.02 2.28,6.02 -5.72,6.02 -5.72,-1.5 ; -5.72,-13.7 -5.72,-10.7 ; -5.72,-7.5 -5.72,-4.7
Top Assembly:
  lines w0.254: 11.4,-19.1 2.4,-19.1 2.4,-18.1 -5.6,-18.1 -5.6,5.9 2.4,5.9 2.4,6.9 11.4,6.9 ; 18.4,-17.8 25.4,-17.8 25.4,5.6 18.4,5.6 ; 11.4,-19.6 18.4,-19.6 18.4,7.4 11.4,7.4 11.4,-19.6
  text "'.Designator'" at 10.853,-6.94 h1
Top Courtyard:
  lines w0.254: -8.6,-20.1 25.9,-20.1 25.9,7.9 -8.6,7.9 -8.6,-20.1
Top Designator:
  text ".Designator" at 1.032,-6.608 h1.52
Dwgs.User:
  lines w0.254: 18.4,-19.6 18.4,7.4

## Jack_XLR-6.35mm_Neutrik_NCJ10FI-V-0_Vertical [mm]
pads (11):
  round 2.9 hole 1.2: 1(0,0) 2(-12.3,0) 3(-6.15,-6.05) G(-6.15,-10.45) GN(-9.25,-8.25) R(-0.35,-5.8) RN(-3.15,-3) S(-11.95,-5.8) SN(-9.15,-3) T(-11.35,5.2) TN(-9.15,3)
F.SilkS:
  circle w0.254: c3.85,-11.5 r1.1
  circle w0.254: c-16.15,11.5 r1.1
  lines w0.254: -16.851,-7.375 cw(c-6.15,0) -17.31,6.66 ccw(c-18.08,7.06) -17.4,7.6 -18.79,9.2 cw(c-16.15,11.5) -13.51,13.8 -12.11,12.19 ccw(c-11.5,12.73) -11.178,11.982 ; -16.85,-7.38 -16.85,-14.5 -14.85,-14.5 -14.85,-15 -12.85,-15 -12.85,-14.5 -4.15,-14.5 -4.15,-15 -3.15,-15 -3.15,-16.1 -2.75,-16.5 -1.55,-16.5 -1.15,-16.1 -1.15,-15 -0.15,-15 -0.15,-14.5 1.35,-14.5 1.35,-13.95 ; -13.65,-6 cw(c-6.15,0) 1.373,-5.971 ; -12.9,-4.11 cw(c-6.15,0) -12.847,4.195 ; -12.188,-7.463 ccw(c-6.15,0) -10.99,-8.29 ; -11.201,11.974 cw(c-6.15,0) 5.01,-6.66 ccw(c5.69,-7.07) 5.109,-7.612 ; -10.393,-6.663 ccw(c-6.148,0.004) -10.17,-6.8 ; -10.34,6.7 cw(c-6.15,0) 0.524,-4.232 ; -8.012,-9.42 ccw(c-6.15,0.001) -7.55,-9.5 ; -7.9,-10.76 cw(c-6.15,0) -4.395,-10.759 ; -7.492,-7.787 ccw(c-6.15,0) -1.96,-6.7 ; -4.663,-9.483 ccw(c-6.15,0) -0.16,-7.5 ; 1.351,-13.953 ccw(c3.85,-11.5) 6.49,-9.2 5.1,-7.6
Top Assembly:
  circle w0.254: c3.85,-11.5 r1.1
  circle w0.254: c-6.15,0 r10.9
  circle w0.254: c-6.15,0 r9.6
  circle w0.254: c-6.15,0 r7.9
  circle w0.254: c-16.15,11.5 r1.1
  lines w0.254: -16.851,-7.375 cw(c-6.15,0) -17.31,6.66 ccw(c-18.08,7.06) -17.4,7.6 -18.79,9.2 cw(c-16.15,11.5) -13.51,13.8 -12.11,12.19 ccw(c-11.5,12.73) -11.178,11.982 ; -16.85,-7.38 -16.85,-14.5 -14.85,-14.5 -14.85,-15 -12.85,-15 -12.85,-14.5 -4.15,-14.5 -4.15,-15 -3.15,-15 -3.15,-16.1 -2.75,-16.5 -1.55,-16.5 -1.15,-16.1 -1.15,-15 -0.15,-15 -0.15,-14.5 1.35,-14.5 1.35,-13.95 ; -11.201,11.974 cw(c-6.15,0) 5.01,-6.66 ccw(c5.69,-7.07) 5.109,-7.612 ; -9.635,-1.392 cw(c-10.2,0) -9.63,1.39 ; -9.631,1.387 cw(c-6.15,0) -2.67,1.39 ; -9.63,-1.39 ccw(c-6.15,0) -7.568,-3.469 ; -7.57,-3.47 ccw(c-6.15,-3.95) -4.73,-3.471 ; -4.73,-3.47 ccw(c-6.15,0) -2.667,-1.389 ; -2.67,-1.39 ccw(c-2.1,0) -2.665,1.392 ; 1.351,-13.953 ccw(c3.85,-11.5) 6.49,-9.2 5.1,-7.6
  text "'.Designator'" at -10.197,-0.84 h1
Top Courtyard:
  lines w0.254: -20.15,-17 7.85,-17 7.85,15.5 -20.15,15.5 -20.15,-17
Top Designator:
  text ".Designator" at -13.768,-1.258 h1.52

## Jack_XLR-6.35mm_Neutrik_NCJ10FI-V_Vertical [mm]
pads (11):
  round 2.9 hole 1.2: 1(0,0) 2(-12.3,0) 3(-6.15,-6.05) G(-6.15,-10.45) GN(-9.25,-8.25) R(-0.35,-5.8) RN(-3.15,-3) S(-11.95,-5.8) SN(-9.15,-3) T(-11.35,5.2) TN(-9.15,3)
F.SilkS:
  circle w0.254: c3.85,-11.5 r1.1
  circle w0.254: c-16.15,11.5 r1.1
  lines w0.254: -16.851,-7.375 cw(c-6.15,0) -17.31,6.66 ccw(c-18.08,7.06) -17.4,7.6 -18.79,9.2 cw(c-16.15,11.5) -13.51,13.8 -12.11,12.19 ccw(c-11.5,12.73) -11.178,11.982 ; -16.85,-7.38 -16.85,-14.5 -14.85,-14.5 -14.85,-15 -12.85,-15 -12.85,-14.5 -4.15,-14.5 -4.15,-15 -3.15,-15 -3.15,-16.1 -2.75,-16.5 -1.55,-16.5 -1.15,-16.1 -1.15,-15 -0.15,-15 -0.15,-14.5 1.35,-14.5 1.35,-13.95 ; -13.65,-6 cw(c-6.15,0) 1.373,-5.971 ; -12.9,-4.11 cw(c-6.15,0) -12.847,4.195 ; -12.188,-7.463 ccw(c-6.15,0) -10.99,-8.29 ; -11.201,11.974 cw(c-6.15,0) 5.01,-6.66 ccw(c5.69,-7.07) 5.109,-7.612 ; -10.393,-6.663 ccw(c-6.148,0.004) -10.17,-6.8 ; -10.34,6.7 cw(c-6.15,0) 0.524,-4.232 ; -8.012,-9.42 ccw(c-6.15,0.001) -7.55,-9.5 ; -7.9,-10.76 cw(c-6.15,0) -4.395,-10.759 ; -7.492,-7.787 ccw(c-6.15,0) -1.96,-6.7 ; -4.663,-9.483 ccw(c-6.15,0) -0.16,-7.5 ; 1.351,-13.953 ccw(c3.85,-11.5) 6.49,-9.2 5.1,-7.6
Top Assembly:
  circle w0.254: c3.85,-11.5 r1.1
  circle w0.254: c-6.15,0 r10.9
  circle w0.254: c-6.15,0 r9.6
  circle w0.254: c-6.15,0 r7.9
  circle w0.254: c-16.15,11.5 r1.1
  lines w0.254: -16.851,-7.375 cw(c-6.15,0) -17.31,6.66 ccw(c-18.08,7.06) -17.4,7.6 -18.79,9.2 cw(c-16.15,11.5) -13.51,13.8 -12.11,12.19 ccw(c-11.5,12.73) -11.178,11.982 ; -16.85,-7.38 -16.85,-14.5 -14.85,-14.5 -14.85,-15 -12.85,-15 -12.85,-14.5 -4.15,-14.5 -4.15,-15 -3.15,-15 -3.15,-16.1 -2.75,-16.5 -1.55,-16.5 -1.15,-16.1 -1.15,-15 -0.15,-15 -0.15,-14.5 1.35,-14.5 1.35,-13.95 ; -11.201,11.974 cw(c-6.15,0) 5.01,-6.66 ccw(c5.69,-7.07) 5.109,-7.612 ; -9.635,-1.392 cw(c-10.2,0) -9.63,1.39 ; -9.631,1.387 cw(c-6.15,0) -2.67,1.39 ; -9.63,-1.39 ccw(c-6.15,0) -7.568,-3.469 ; -7.57,-3.47 ccw(c-6.15,-3.95) -4.73,-3.471 ; -4.73,-3.47 ccw(c-6.15,0) -2.667,-1.389 ; -2.67,-1.39 ccw(c-2.1,0) -2.665,1.392 ; 1.351,-13.953 ccw(c3.85,-11.5) 6.49,-9.2 5.1,-7.6
  text "'.Designator'" at -10.197,-0.84 h1
Top Courtyard:
  lines w0.254: -20.15,-17 7.85,-17 7.85,15.5 -20.15,15.5 -20.15,-17
Top Designator:
  text ".Designator" at -13.768,-1.258 h1.52